# EAGLE library part TL2575HV-15IKTTR (library MotorControllerEagleLibrary)
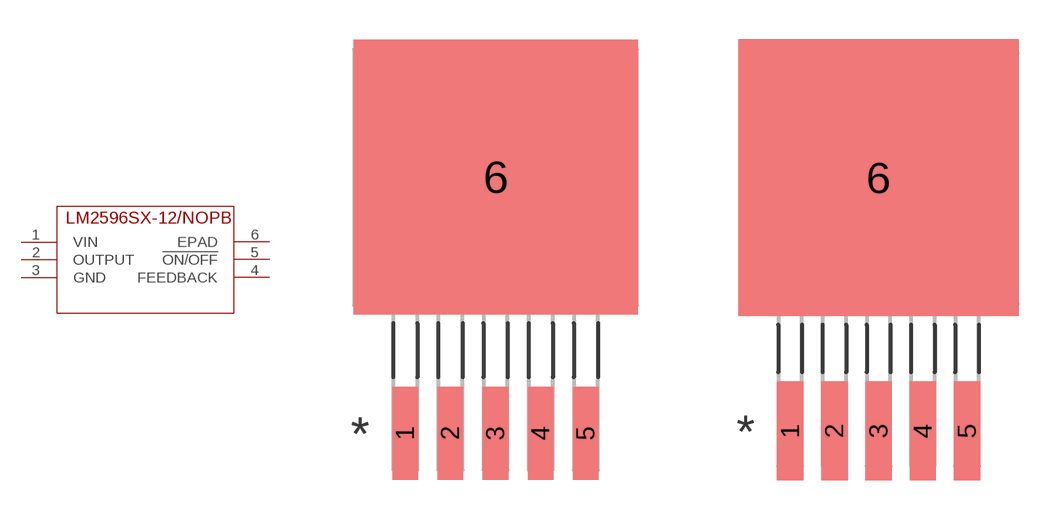
[diagram p1: symbol with the pads of KTT5_6P22X6P86; footprints KTT5_6P22X6P86, KTT5_6P22X6P86-M]

Designator prefix -

## TL2575HV-15IKTTR (MANUFACTURER_PART_NUMBER: tl2575hv15_ktt_5; VENDOR: Texas Instruments)  [KTT5_6P22X6P86]
1  VIN  in
2  OUTPUT  out
3  GND  pwr
4  FEEDBACK  pas
5  !ON/OFF  pas
6  EPAD  pas

## TL2575HV-15IKTTRKTT5_6P22X6P86-M (MANUFACTURER_PART_NUMBER: tl2575hv15_ktt_5; VENDOR: Texas Instruments)  [KTT5_6P22X6P86-M]
Pads as for KTT5_6P22X6P86

## TL2575HV-15IKTTRKTT5_6P22X6P86-L (MANUFACTURER_PART_NUMBER: tl2575hv15_ktt_5; VENDOR: Texas Instruments)  [KTT5_6P22X6P86-L]
Pads as for KTT5_6P22X6P86

## Footprint KTT5_6P22X6P86 (pad centres in mm)
smd 0.965 x 3.505: 1 -3.4,-9.652; 2 -1.7,-9.652; 3 0,-9.652; 4 1.7,-9.652; 5 3.4,-9.652
smd 10.719 x 10.363: 6 0,0

## Footprint KTT5_6P22X6P86-M (pad centres in mm)
smd 1.016 x 3.81: 1 -3.4,-9.703; 2 -1.7,-9.703; 3 0,-9.703; 4 1.7,-9.703; 5 3.4,-9.703
smd 10.77 x 10.668: 6 0,0.051

## Footprint KTT5_6P22X6P86-L (pad centres in mm)
smd 0.914 x 3.2: 1 -5.08,-9.601; 2 -2.54,-9.601; 3 0,-9.601; 4 2.54,-9.601; 5 5.08,-9.601
smd 10.668 x 10.058: 6 0,-0.051